# Altium schematic symbol library TEN5 2412.Schlib: 1 symbol
Pins are listed as number, name and electrical type; pins without a type are passive.

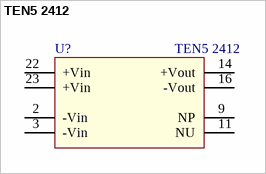
[diagram p0: symbol TEN5 2412]

## TEN5 2412
designator U?
Назначение: DC-DC преобразователь; Наименование: TEN5 2412
footprint TEN 5
pins: 2 -Vin (oc), 3 -Vin (oc), 9 NP (oc), 11 NU (oc), 14 +Vout (oc), 16 -Vout (oc), 22 +Vin (oc), 23 +Vin (oc)